# EAGLE library part AS-ITM-00150 (library tinycircuits)
IC DUAL EIA-232 DRVR/RCVR 16SOIC
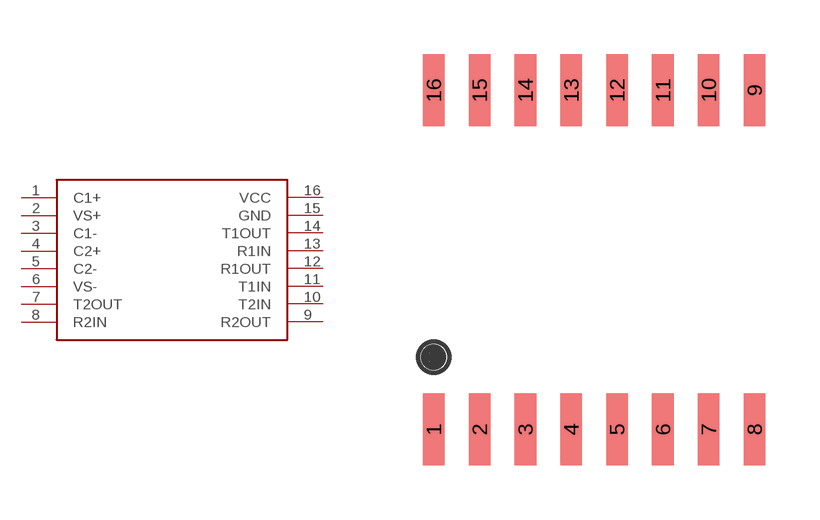
[diagram p66: symbol with the pads of MAX232IDW; footprint MAX232IDW]

Designator prefix -

## AS-ITM-00150  [MAX232IDW]
1  C1+
2  VS+
3  C1-
4  C2+
5  C2-
6  VS-
7  T2OUT
8  R2IN
9  R2OUT
10  T2IN
11  T1IN
12  R1OUT
13  R1IN
14  T1OUT
15  GND
16  VCC

## Footprint MAX232IDW (pad centres in mm)
smd 0.6 x 2: 1 -4.3,-4.6; 2 -3.03,-4.6; 3 -1.76,-4.6; 4 -0.49,-4.6; 5 0.78,-4.6; 6 2.05,-4.6; 7 3.32,-4.6; 8 4.59,-4.6; 9 4.59,4.8; 10 3.32,4.8; 11 2.05,4.8; 12 0.78,4.8; 13 -0.49,4.8; 14 -1.76,4.8; 15 -3.03,4.8; 16 -4.3,4.8